# Altium footprint library SG__PCB_HOLEs.PcbLib: 39 footprints (part 1 of 3)
Each footprint in its own frame and in the unit in brackets; x right, y up, seen from the top. Pads: shape width x height; smd on the part's side, far side on the other; paste and mask are expansions set on the pad; w line width, h text height; cw(c..) or ccw(c..) is an arc to the next point about the centre after c.
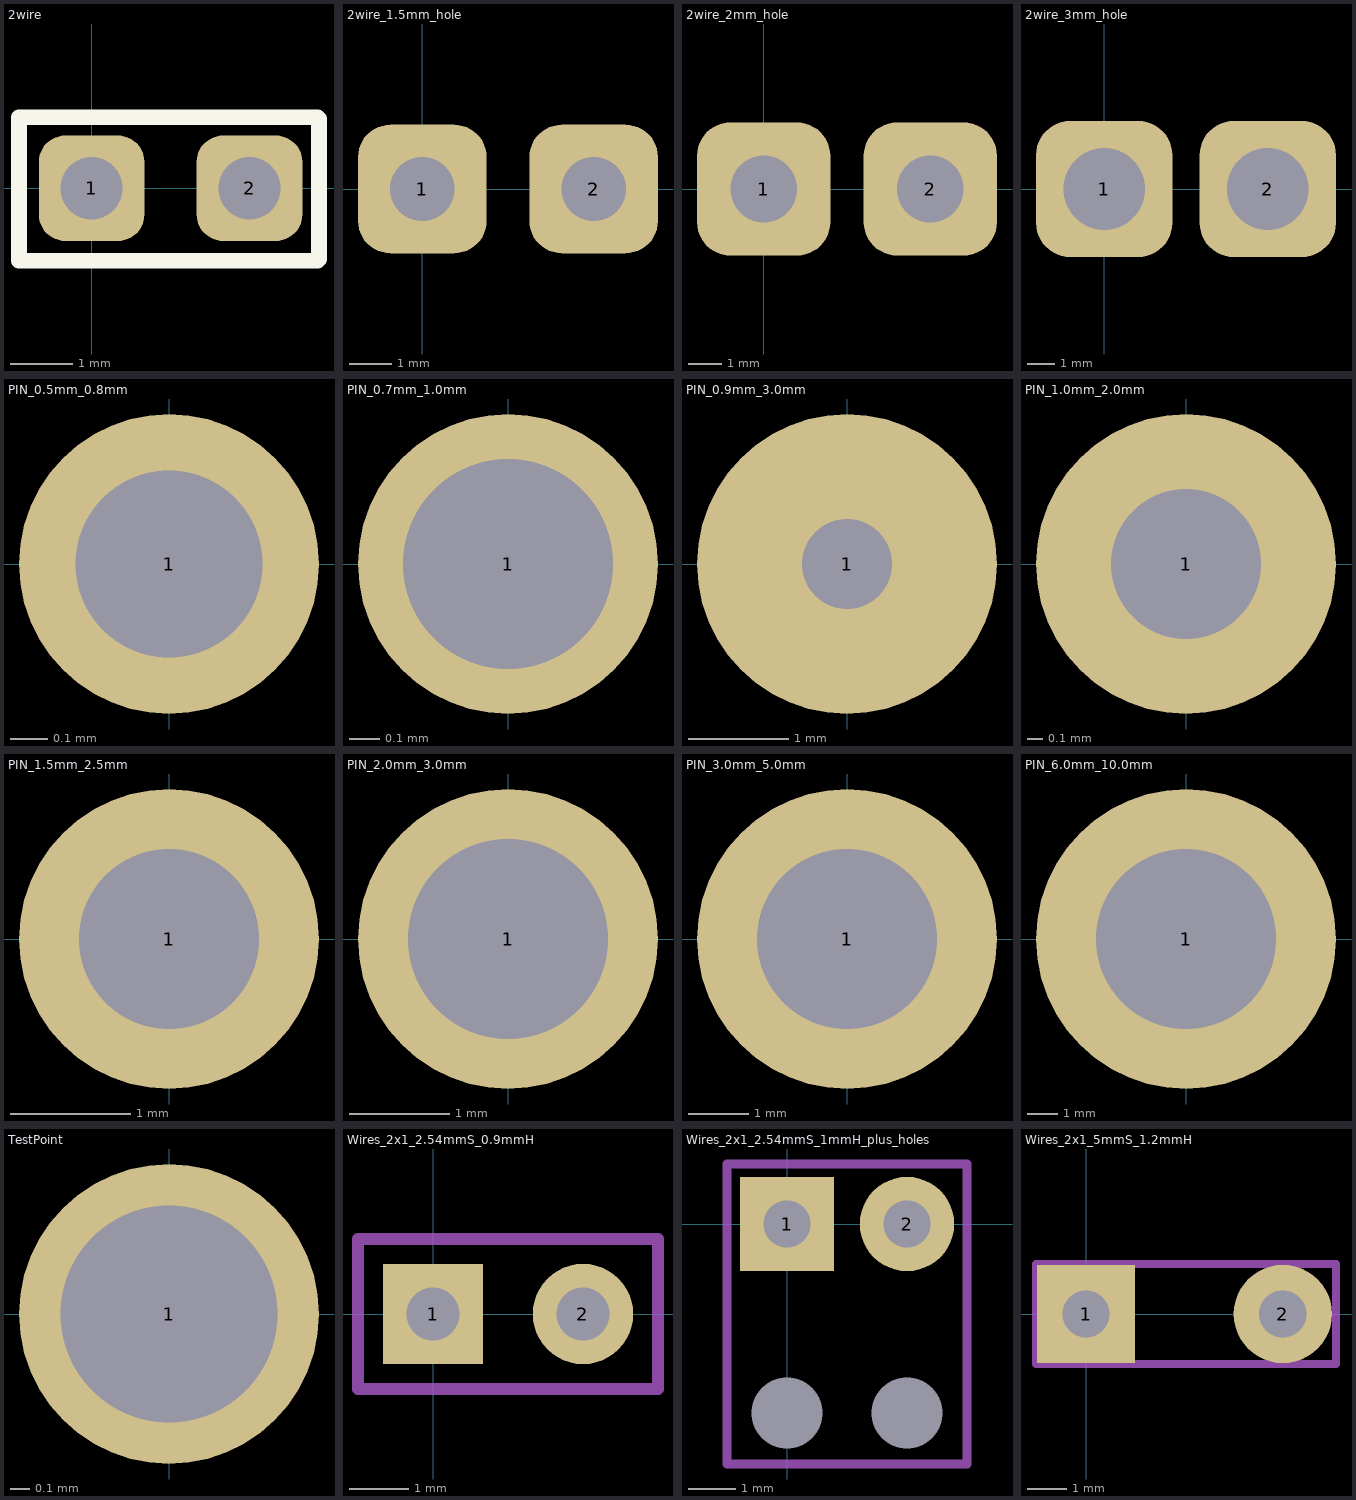
[diagram p0: the footprints below, top view; thin cyan lines are the x and y axes]

## 2wire [mm]
height 12
pads (2):
  rrect50% 1.7x1.7 hole 1: 1(0,0) 2(2.54,0)
Top Overlay:
  lines w0.254: -1.168,-1.168 3.632,-1.168 3.658,-1.143 3.658,1.118 3.632,1.143 -1.168,1.143 -1.168,-1.168

## 2wire_1.5mm_hole [mm]
height 12
pads (2):
  rrect50% 3x3 hole 1.5: 1(0,0) 2(4,0)

## 2wire_2mm_hole [mm]
height 12
pads (2):
  rrect50% 4x4 hole 2: 1(0,0) 2(5,0)

## 2wire_3mm_hole [mm]
height 12
pads (2):
  rrect50% 5x5 hole 3: 1(0,0) 2(6,0)

## PIN_0.5mm_0.8mm [mm] "Hole diam, out size diam"
pads (1):
  round 0.8 hole 0.5 mask-0.05: 1(0,0)

## PIN_0.7mm_1.0mm [mm] "Hole diam, out size diam"
pads (1):
  round 1 hole 0.7: 1(0,0)

## PIN_0.9mm_3.0mm [mm] "Hole diam, out size diam"
pads (1):
  round 3 hole 0.9: 1(0,0)

## PIN_1.0mm_2.0mm [mm] "Hole diam, out size diam"
pads (1):
  round 2 hole 1: 1(0,0)

## PIN_1.5mm_2.5mm [mm]
height 12
pads (1):
  round 2.5 hole 1.5: 1(0,0)

## PIN_2.0mm_3.0mm [mm]
height 12
pads (1):
  round 3 hole 2: 1(0,0)

## PIN_3.0mm_5.0mm [mm] "Hole diam, out size diam"
height 12
pads (1):
  round 5 hole 3: 1(0,0)

## PIN_6.0mm_10.0mm [mm] "Hole diam, out size diam"
height 12
pads (1):
  round 10 hole 6: 1(0,0)

## TestPoint [mil]
pads (1):
  round 60 hole 43.31: 1(0,0)

## Wires_2x1_2.54mmS_0.9mmH [mm]
height 12
pads (2):
  rect 1.7x1.7 hole 0.9: 1(0,0)
  round 1.7 hole 0.9: 2(2.54,0)
Top Courtyard:
  lines w0.2: -1.27,-1.27 3.81,-1.27 3.81,1.27 -1.27,1.27 -1.27,-1.27

## Wires_2x1_2.54mmS_1mmH_plus_holes [mm]
pads (4):
  round 0 hole 1.5 unplated: 0(0,-4) 0(2.54,-4)
  rect 2x2 hole 1: 1(0,0)
  round 2 hole 1: 2(2.54,0)
Top Courtyard:
  lines w0.2: -1.27,-5.08 3.81,-5.08 3.81,1.27 -1.27,1.27 -1.27,-5.08

## Wires_2x1_5mmS_1.2mmH [mm] "Wires_AxB_XmmSpacing_YmmHole"
pads (2):
  rect 2.5x2.5 hole 1.2: 1(0,0)
  round 2.5 hole 1.2: 2(5,0)
Top Courtyard:
  lines w0.2: -1.27,-1.27 6.35,-1.27 6.35,1.27 -1.27,1.27 -1.27,-1.27